# Altium schematic symbol library CM200C.Schlib: 1 symbol
Pins are listed as number, name and electrical type; pins without a type are passive.

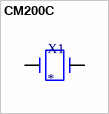
[diagram p0: symbol CM200C]

## CM200C
designator X1
Crystal Oscillator
pins: 1, 4